# Altium footprint library Seeed-OPL-Diode.PCBLIB: 38 footprints (part 1 of 3)
Each footprint in its own frame and in the unit in brackets; x right, y up, seen from the top. Pads: shape width x height; smd on the part's side, far side on the other; paste and mask are expansions set on the pad; w line width, h text height; cw(c..) or ccw(c..) is an arc to the next point about the centre after c.
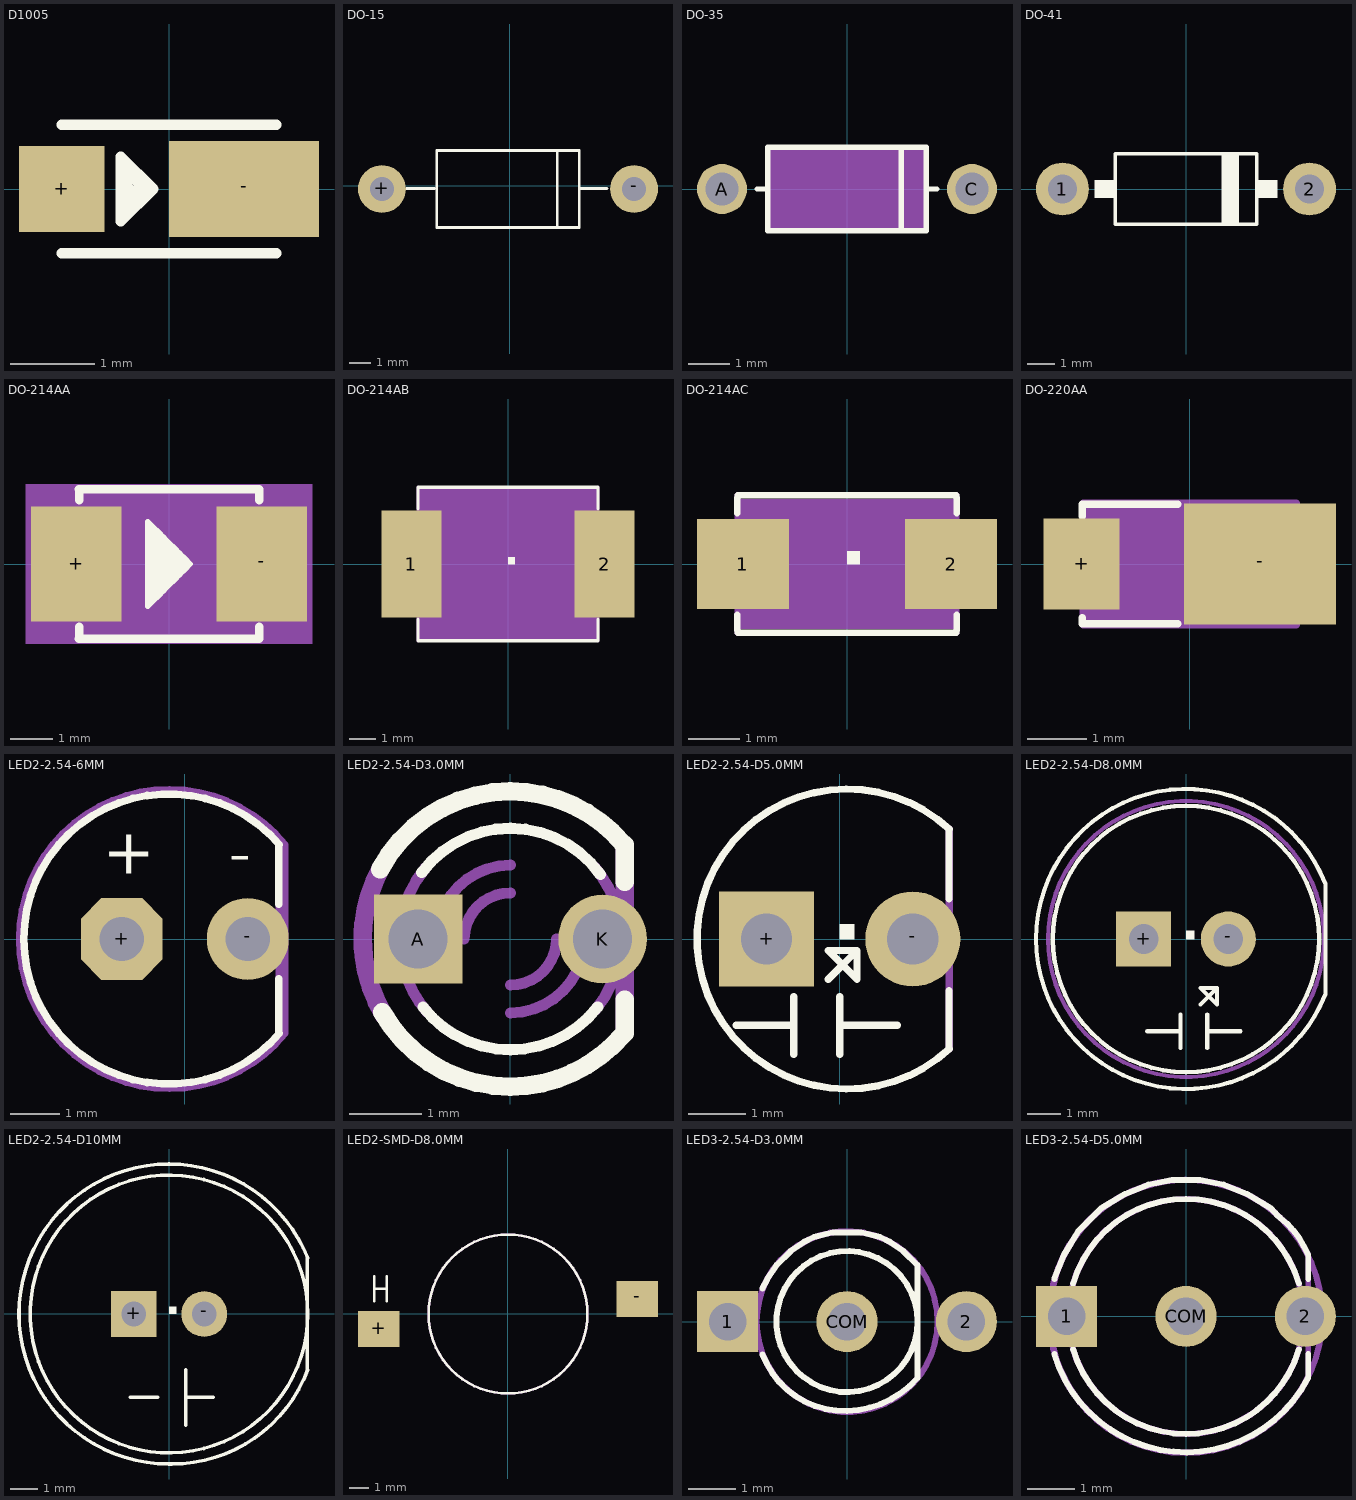
[diagram p0: the footprints below, top view; thin cyan lines are the x and y axes]

## D1005 [mil]
pads (2):
  rect 40x40 smd: +(-50,0)
  rect 70x45 smd: -(35,0)
Top Overlay:
  lines w5: -50,-30 50,-30 ; -50,30 50,30 ; -22.5,-7.5 -22.5,-15 -7.5,0 ; -22.5,-7.5 -22.5,7.5 ; -22.5,-7.5 -7.5,0 ; -22.5,-7.5 -17.5,-2.5 ; -22.5,7.5 -22.5,15 -7.5,0 ; -22.5,7.5 -12.5,2.5 -17.5,-2.5 ; -22.5,7.5 -17.5,-2.5

## DO-15 [mil]
pads (2):
  round 86 hole 43.31: +(-229.33,-6.1) -(223.43,-6.1)
Top Overlay:
  lines w5: -185,-5 -135,-5 ; 175,-5 125,-5 ; 85.63,-75 125,-75 125,-5 ; 85.63,-75 -130.91,-75 -130.91,62.8 85.63,62.8 ; 85.63,-75 85.63,62.8 ; 85.63,62.8 125,62.8 125,-5

## DO-35 [mil]
pads (2):
  round 47.25 hole 31.5: A(-118.11,0) C(118.11,0)
Top Overlay:
  lines w5: -85,0 -75,0 ; 75,0 85,0 ; 51.18,-39.37 74.8,-39.37 74.8,39.37 51.18,39.37 ; 51.18,-39.37 -74.8,-39.37 -74.8,39.37 51.18,39.37 ; 51.18,-39.37 51.18,39.37
Mechanical 27:
  region: 75,40 -75,40 -75,-40 75,-40

## DO-41 [mil]
pads (2):
  round 75 hole 41: 1(-175,0) 2(175,0)
Top Overlay:
  rectangle: 50,-50 75,50
  rectangle: -129.92,-12.5 -100,12.5
  rectangle: 100,-12.5 129.92,12.5
  lines w5: -100,-50 100,-50 100,50 -100,50 -100,-50

## DO-214AA [mil]
pads (2):
  rect 85x107.99 smd: +(-87.01,0) -(87.01,0)
Top Overlay:
  lines w5: -15,-35 -20,-40 -20,40 -15,35 ; -15,-35 -15,35 ; -15,-35 -10,-30 ; -15,35 -10,30 ; -10,-30 -5,-25 ; -10,-30 -10,30 ; -10,30 -5,25 ; -5,-25 -5,25 ; -5,-25 0,-20 ; -5,25 0,20 ; 0,-20 5,-15 ; 0,-20 0,20 ; 0,20 5,15 ; 5,-15 10,-10 ; 5,-15 5,15 ; 5,15 10,10 ; 10,-10 15,-5 ; 10,-10 10,10 ; 10,10 15,5 ; 15,-5 20,0 15,5 ; 15,-5 15,5
  lines w8: -85.04,-70.08 -84.25,-70.08 ; -85.04,70.08 -84.25,70.08 ; -84.25,-59.06 -84.25,-70.08 ; -84.25,59.84 -84.25,70.08 ; 85.04,-59.06 85.04,-70.08 -84.25,-70.08 ; 85.04,59.84 85.04,70.08 -84.25,70.08
Mechanical 16:
  lines w8: -85.04,-70.08 -85.04,70.08 ; 85.04,-70.08 85.04,70.08
Mechanical 27:
  region: 135,75 -135,75 -135,-75 135,-75

## DO-214AB [mil]
pads (2):
  rect 90x160 smd: 1(-145,0) 2(145,0)
Top Overlay:
  region: 0,0 10,0 10,10 0,10
  lines w5: -135.04,-114.17 -135.04,-82.68 ; -135.04,82.68 -135.04,114.17 ; -135,-115 135,-115 ; -135,115 135,115 ; 135.04,-114.17 135.04,-82.68 ; 135.04,82.68 135.04,114.17
Mechanical 16:
  lines w5: -135,-115 -135,115 ; 135,-115 135,115
Mechanical 27:
  region: 135,115 -135,115 -135,-115 135,-115

## DO-214AC [mil]
pads (2):
  rect 70.87x69.69 smd: 1(-80.39,0) 2(80.39,0)
Top Overlay:
  region: 0,0 10,0 10,10 0,10
  lines w5: -84.65,-51.18 -84.65,-39.37 ; -84.65,39.37 -84.65,51.18 ; -84.45,-53.15 84.45,-53.15 ; -84.45,53.15 84.45,53.15 ; 84.65,-51.18 84.65,-39.37 ; 84.65,39.37 84.65,51.18
Mechanical 16:
  lines w5: -84.45,-53.15 -84.45,53.15 ; 84.45,-53.15 84.45,53.15
Mechanical 27:
  rectangle: -85,-50 85,50

## DO-220AA [mil]
pads (2):
  rect 50x60 smd: +(-71.3,0)
  rect 100x80 smd: -(46.3,0)
Top Overlay:
  region: 0,0 10,0 10,10 0,10
  lines w5: -70.87,-35.43 -70.87,-39.37 -7.87,-39.37 ; -70.87,31.5 -70.87,39.37 -7.87,39.37
Mechanical 16:
  lines w5: -70,-40 -70,40 70,40 70,-40 -70,-40
Mechanical 27:
  region: 70,40 -70,40 -70,-40 70,-40

## LED2-2.54-6MM [mil]
pads (2):
  oct 65x65 hole 35: +(-50,0)
  round 65 hole 35: -(50,0)
Top Overlay:
  lines w5.98: 74.8,-74.8 74.8,-31.5 ; 74.8,27.56 74.8,74.8 ; 75,-75 cw(c-12.5,0) 75,75
  text "+" at -65,40 h62
  text "-" at 35,40 h62
Mechanical 16:
  lines w5.98: 75,-75 75,75
Mechanical 27:
  lines w5: 80,-75 cw(c-12.5,0) 80,75 80,-75

## LED2-2.54-D3.0MM [mil]
pads (2):
  rect 48x48 hole 32: A(-50,0)
  round 48 hole 32: K(50,0)
Top Overlay:
  lines w6: -48,36 cw(c0,0) 0,60 cw(c-0.01,0) 48.82,34.87 ; -47.36,-36.83 ccw(c0.01,0) 0,-60 ccw(c-0.01,0) 47.36,-36.83
  lines w10: -70.59,37.65 cw(c0,0) 0,80 cw(c0.01,0) 61.46,51.22 ; -69.46,-39.69 ccw(c0,0) 0,-80 ccw(c0,0) 61.07,-51.68 ; 62,-51 62,-33 ; 62,31 62,51
Mechanical 16:
  lines w6: -46.09,38.41 ccw(c0,-0.01) -60,0 ccw(c0,-0.01) -44.85,-39.86 ; -40,0 cw(c0,0) 0,40 ; -25,0 cw(c0,0) 0,25 ; 0,-40 ccw(c0,0) 40,0 ; 0,-25 ccw(c0,0) 25,0 ; 45.56,39.05 cw(c0,0.01) 60,0 cw(c0,0.01) 46.09,-38.41
  lines w10: -70.44,37.93 ccw(c0,0.01) -80,0 ccw(c0,0) -68.13,-41.93 ; 62,-50 62,50
Mechanical 27:
  lines w5: 60,-50 cw(c-2.5,0) 60,50 60,-50

## LED2-2.54-D5.0MM [mil]
pads (2):
  rect 65x65 hole 35: +(-49.99,0)
  round 65 hole 35: -(49.99,0)
Top Overlay:
  region: 0,0 10,0 10,10 0,10
  lines w5: -70.87,-59.06 -31.5,-59.06 ; -31.5,-78.74 -31.5,-59.06 ; -31.5,-39.37 -31.5,-59.06 ; -7.87,-27.56 11.81,-7.87 ; 0,-78.74 0,-59.06 ; 0,-39.37 0,-59.06 ; 39.37,-59.06 0,-59.06 ; 74.8,-74.8 74.8,-35.43 ; 74.8,27.56 74.8,74.8 ; 75,-75 cw(c5,0) 75,75 ; 11.81,-7.87 -7.87,-7.87 11.81,-27.56 11.81,-7.87
Mechanical 16:
  lines w5: 75,-75 75,75

## LED2-2.54-D8.0MM [mil]
pads (2):
  rect 65x65 hole 35: +(-49.99,0)
  round 65 hole 35: -(49.99,0)
Top Overlay:
  circle w5: c0,0 r157.48
  region: 0,0 10,0 10,10 0,10
  lines w5: -45.87,-109.06 -6.5,-109.06 ; -6.5,-128.74 -6.5,-109.06 ; -6.5,-89.37 -6.5,-109.06 ; 17.13,-77.56 36.81,-57.87 ; 25,-128.74 25,-109.06 ; 25,-89.37 25,-109.06 ; 64.37,-109.06 25,-109.06 ; 36.81,-57.87 17.13,-57.87 36.81,-77.56 36.81,-57.87 ; 165,-65 165,65 ccw(c0,0) 165,-65
Mechanical 27:
  circle w5: c0,0 r163.25

## LED2-2.54-D10MM [mil]
pads (2):
  rect 65x65 hole 35: +(-49.99,0)
  round 65 hole 35: -(49.99,0)
Top Overlay:
  circle w5: c0,0 r196.85
  region: 0,0 10,0 10,10 0,10
  lines w5: -55.12,-118.11 -15.75,-118.11 ; 23.62,-157.48 23.62,-118.11 ; 23.62,-78.74 23.62,-118.11 ; 62.99,-118.11 23.62,-118.11 ; 196.06,-78.94 196.06,78.94 ; 196.85,-78.74 cw(c3.94,-6.66) 3.94,-212.6 0,-212.6 cw(c0,0) -212.6,0 cw(c0,0) 0,212.6 cw(c0,0.93) 196.85,78.74

## LED2-SMD-D8.0MM [mil]
pads (2):
  rect 82.68x70.87 smd: +(-255.91,-29.53) -(255.91,29.53)
Top Overlay:
  circle w5: c0,0 r157.48
  lines w5: -265,25 -265,50 ; -265,75 -265,50 ; -240,25 -240,75 ; -240,50 -265,50
Mechanical 27:
  circle w5: c0,0 r157.48

## LED3-2.54-D3.0MM [mil]
pads (3):
  rect 51.18x51.18 hole 31.5: 1(-100,0)
  round 51.18 hole 31.5: 2(100,0) COM(0,0)
Top Overlay:
  circle w5: c0,0 r59.06
  lines w5: -70.87,-27.56 -66.93,-35.43 ccw(c-3.93,-3.93) -35.43,-66.93 ccw(c-1.98,0) 0,-74.8 ccw(c-2.15,6.86) 59.06,-47.24 59.06,47.24 47.24,59.06 35.43,66.93 27.56,70.87 11.81,74.8 -11.81,74.8 -27.56,70.87 -35.43,66.93 -47.24,59.06 -59.06,47.24 -66.93,35.43 -70.87,27.56
Mechanical 16:
  lines w5: 59.06,-47.24 cw(c0.01,0) 59.06,47.24
Mechanical 27:
  circle w5: c0,0 r75.79

## LED3-2.54-D5.0MM [mil]
pads (3):
  rect 51.18x51.18 hole 31.5: 1(-100,0)
  round 51.18 hole 31.5: 2(100,0) COM(0,0)
Top Overlay:
  lines w5: -110.24,-31.5 ccw(c0,1.18) 102.36,-51.18 102.36,-31.5 ; -110.24,31.5 -102.36,51.18 -90.55,70.87 -70.87,90.55 -51.18,102.36 -31.5,110.24 -11.81,114.17 11.81,114.17 31.5,110.24 51.18,102.36 70.87,90.55 74.8,86.61 ccw(c90.67,98.58) 78.74,82.68 cw(c38.39,29.03) 98.43,59.06 102.36,51.18 102.36,31.5 ; -94.49,-27.56 ccw(c0,0) 94.49,-27.56 ; -94.49,27.56 cw(c0,0) 94.49,27.56
Mechanical 16:
  circle w5: c0,0 r98.43
  lines w5: 102.36,-51.18 cw(c0,0) 102.36,51.18 102.36,-51.18
Mechanical 27:
  circle w5: c0,0 r114.17